# Altium schematic symbol library ADuM3211.Schlib: 1 symbol
Pins are listed as number, name and electrical type; pins without a type are passive.

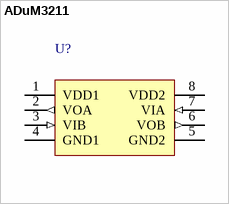
[diagram p0: symbol ADuM3211]

## ADuM3211
designator U?
3 kV RMS Dual Channel Digital Isolators
pins: 1 VDD1 (power), 2 VOA (out), 3 VIB (in), 4 GND1 (power), 5 GND2 (power), 6 VOB (out), 7 VIA (in), 8 VDD2 (power)